# EAGLE library part EDGE-LIBRARY_AP2553AW6-7 (library Local Compute Module)
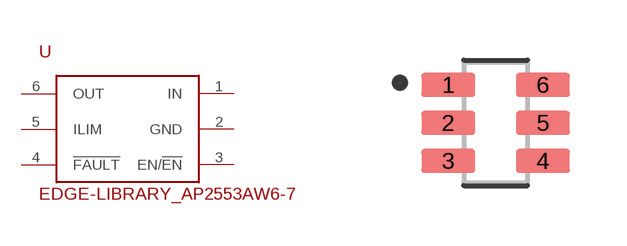
[diagram p8: symbol with the pads of EDGE-LIBRARY_SOT95P280X140-6N; footprint EDGE-LIBRARY_SOT95P280X140-6N]

Designator prefix U

## EDGE-LIBRARY_AP2553AW6-7 (DIGIKEY: AP2553AW6-7; MANUFACTURE: Diodes Incorporated; MPN: AP2553AW6-7)  [EDGE-LIBRARY_SOT95P280X140-6N]
1  IN
2  GND
3  EN/!EN
4  !FAULT
5  ILIM
6  OUT

## Footprint EDGE-LIBRARY_SOT95P280X140-6N (pad centres in mm)
smd 1.35 x 0.6: 1 -1.185,0.95; 2 -1.185,0; 3 -1.185,-0.95; 4 1.185,-0.95; 5 1.185,0; 6 1.185,0.95